# Altium footprint library XS128.PcbLib: 25 footprints (part 2 of 2)
Each footprint in its own frame and in the unit in brackets; x right, y up, seen from the top. Pads: shape width x height; smd on the part's side, far side on the other; paste and mask are expansions set on the pad; w line width, h text height; cw(c..) or ccw(c..) is an arc to the next point about the centre after c.
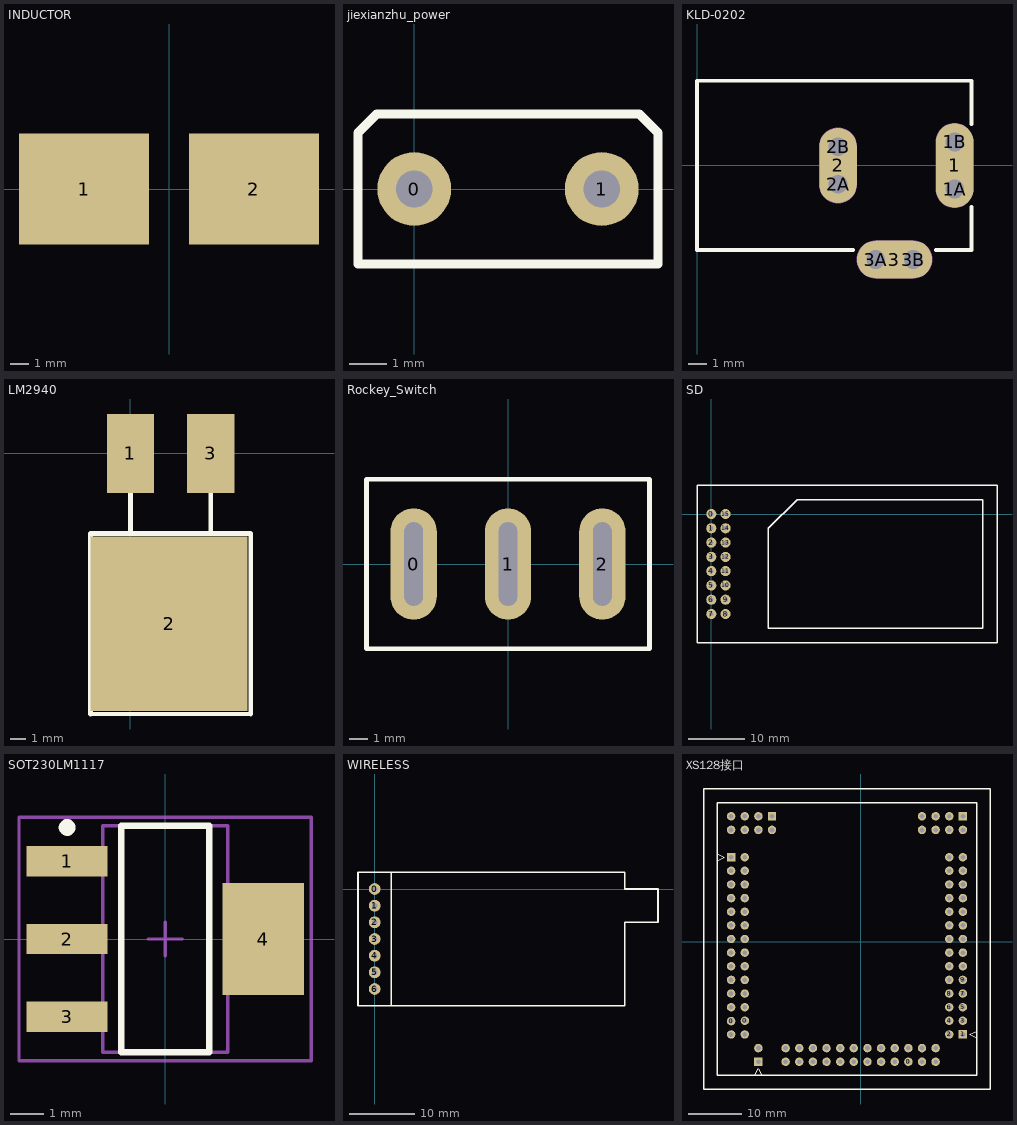
[diagram p1: the footprints below, top view; thin cyan lines are the x and y axes]

## INDUCTOR [mm]
pads (2):
  rect 7x6 smd: 1(-4.572,0) 2(4.572,0)

## jiexianzhu_power [mm]
pads (2):
  round 2 hole 1: 0(0,0) 1(5.08,0)
Top Overlay:
  lines w0.254: -1.524,-2.032 -1.524,1.524 -1.016,2.032 6.096,2.032 6.604,1.524 6.604,-2.032 -1.524,-2.032

## KLD-0202 [mm] "DC Power Jack, 2.5mm, KLD Series, PCB Mount"
pads (9):
  oval 2x4.5 all layers, no hole: 1(13.7,0)
  round 1.5 hole 1: 1A(13.7,-1.25) 1B(13.7,1.25) 2A(7.5,-1) 2B(7.5,1) 3A(9.5,-5) 3B(11.5,-5)
  oval 2x4 all layers, no hole: 2(7.5,0)
  oval 4x2 all layers, no hole: 3(10.5,-5)
Top Overlay:
  lines w0.2: 8.3,-4.5 0,-4.5 0,4.5 14.6,4.5 14.6,2.2 ; 12.7,-4.5 14.6,-4.5 14.6,-2.2
Mechanical 1:
  lines w1: 7.5,-1 7.5,1 ; 9.5,-5 11.5,-5 ; 13.7,-1.25 13.7,1.25
  text "Mech 2 - Clearance, move to internal plane if present" at 0.286,5.066 h0.3
  text "Mech 1 - Slot cut-out" at 0.286,5.566 h0.3
  text "Assign keep-out area to slot" at 0.286,6.566 h0.3
  text "Alert PCB fab to slot details" at 0.286,6.066 h0.3
Mechanical 2:
  lines w2.016: 7.5,-1 7.5,1 ; 9.5,-5 11.5,-5 ; 13.7,-1.25 13.7,1.25

## LM2940 [mm]
pads (3):
  rect 3x5 smd: 1(0,0) 3(5.08,0)
  rect 9.924x11.07 smd: 2(2.44,-10.795)
Top Overlay:
  lines w0.254: -2.54,-16.51 7.62,-16.51
  lines w0.305: -2.54,-16.51 -2.54,-5.08 7.62,-5.08 7.62,-16.51 ; 0,-5.08 0,-1.524 ; 5.08,-5.08 5.08,-1.524

## Rockey_Switch [mm]
pads (3):
  oval 2.5x6 hole 1 slot 4.5 at 90 deg: 0(-5.08,0) 1(0,0) 2(5.08,0)
Top Overlay:
  lines w0.254: -7.62,-4.572 -7.62,4.572 7.62,4.572 7.62,-4.572 -7.62,-4.572

## SD [mm]
pads (16):
  round 1.8 hole 0.8: 0(0,0) 1(0,-2.54) 2(0,-5.08) 3(0,-7.62) 4(0,-10.16) 5(0,-12.7) 6(0,-15.24) 7(0,-17.78) 8(2.54,-17.78) 9(2.54,-15.24) 10(2.54,-12.7) 11(2.54,-10.16) 12(2.54,-7.62) 13(2.54,-5.08) 14(2.54,-2.54) 15(2.54,0)
Top Overlay:
  lines w0.254: -2.54,-22.86 -2.54,5.08 50.8,5.08 50.8,-22.86 -2.54,-22.86 ; 10.16,-20.32 10.16,-2.54 15.24,2.54 48.26,2.54 48.26,-20.32 10.16,-20.32

## SOT230LM1117 [mm]
pads (4):
  rect 2.4x0.9 smd: 1(-2.9,2.3) 2(-2.9,0) 3(-2.9,-2.3)
  rect 2.4x3.3 smd: 4(2.9,0)
Top Overlay:
  circle w0.25: c-2.9,3.3 r0.125
  lines w0.2: -1.3,-3.35 -1.3,3.35 1.3,3.35 1.3,-3.35 -1.3,-3.35
Mechanical 13:
  lines w0.1: -1.85,-3.35 -1.85,3.35 1.85,3.35 1.85,-3.35 -1.85,-3.35
Mechanical 15:
  lines w0.1: -0.5,0 0.5,0 ; 0,-0.5 0,0.5 ; -4.325,-3.6 -4.325,3.6 4.325,3.6 4.325,-3.6 -4.325,-3.6
3D body: height 1.8, standoff 0.02, extent -1.85,-3.35 1.85,3.35

## WIRELESS [mm]
pads (7):
  round 1.8 hole 0.8: 0(0,0) 1(0,-2.54) 2(0,-5.08) 3(0,-7.62) 4(0,-10.16) 5(0,-12.7) 6(0,-15.24)
Top Overlay:
  lines w0.254: 2.54,-17.78 2.54,2.54 ; -2.54,-17.78 38.1,-17.78 38.1,-5.08 43.18,-5.08 43.18,0 38.1,0 38.1,2.54 -2.54,2.54 -2.54,-17.78

## XS128接口 [mil]
pads (98):
  round 62 hole 35: 0(-950,-582) 0(-849,-579) 0(350,-880) 2(650,-680) 3(750,-580) 4(650,-580) 5(750,-480) 6(650,-480) 7(750,-380) 8(650,-380) 9(750,-280) 10(650,-280) 11(750,-180) 12(650,-180) 13(750,-80) 14(650,-80) 15(750,20) 16(650,20) 17(650,120) 18(750,120) 19(750,220) 20(650,220) 21(750,320) 22(650,320) 23(750,420) 24(650,420) 25(750,520) 26(650,520) 27(750,620) 28(650,620) 29(750,820) 31(650,820) 32(650,920) 33(550,820) 34(450,820) 35(550,920) 36(450,920) 38(-650,820) 39(-750,920) 40(-750,820) 41(-850,920) 42(-850,820) 43(-950,920) 44(-950,820) 46(-850,620) 47(-950,520) 48(-850,520) 49(-950,420) 50(-850,420) 51(-950,320) 52(-850,320) 53(-950,220) 54(-850,220) 55(-950,120) 56(-850,120) 57(-950,20) 58(-850,20) 59(-950,-80) 60(-850,-80) 61(-950,-180) 62(-850,-180) 63(-950,-280) 64(-850,-280) 65(-950,-380) 66(-850,-380) 67(-950,-480) 68(-850,-480) 69(-950,-680) 70(-850,-680) 70(-750,-780) 71(-550,-780) 72(-550,-880) 73(-450,-780) 74(-450,-880) 75(-350,-780) 76(-350,-880) 77(-250,-780) 78(-250,-880) 79(-150,-780) 80(-150,-880) 81(-50,-780) 82(-50,-880) 83(50,-780) 84(50,-880) 85(150,-780) 86(150,-880) 87(250,-780) 88(250,-880) 89(350,-780) 90(450,-880) 91(450,-780) 92(550,-880) 93(550,-780)
  rect 62x62 hole 35: 1(750,-680) 30(750,920) 37(-650,920) 45(-950,620) 69(-750,-880)
Top Overlay:
  lines w8: -1050,595 -1000,620 -1050,645 ; -775,-980 -750,-930 -725,-980 ; 850,-705 800,-680 850,-655
  lines w10: -1150,-1080 -1150,1120 950,1120 950,-1080 -1110,-1080 -1150,-1080 ; -1050,-980 850,-980 850,1020 -1050,1020 -1050,-980